# EAGLE library part RASPBERRYPI-40-PIN-GPIO (library HAT)
Raspberry Pi GPIO Header 2x20 pin connector, as found on B, B+, A+ models. Both shrouded PTH and SMT versions available. SparkFun Products: GPIO Shrouded Header <https://www.sparkfun.com/products/13054>- PTH SparkFun Pi Wedge (Preassembled) <https://www.sparkfun.com/products/13717>
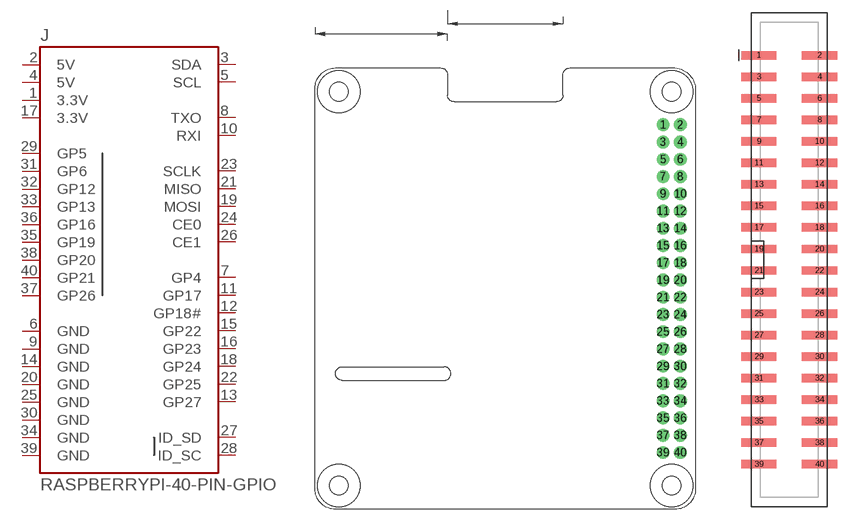
[diagram p0: symbol with the pads of 2X20_HAT; footprints 2X20_HAT, 2X20_SHROUDED_SMT]

Designator prefix J

## RASPBERRYPI-40-PIN-GPIO_B+ (PROD_ID: CONN-12263; SF_ID: PRT-13054)  [2X20_HAT]
1  3.3V  pwr
2  5V  pwr
3  SDA
4  5V  pwr
5  SCL
6  GND  pwr
7  GP4
8  TXO  out
9  GND  pwr
10  RXI  in
11  GP17
12  GP18#
13  GP27
14  GND  pwr
15  GP22
16  GP23
17  3.3V  pwr
18  GP24
19  MOSI  out
20  GND  pwr
21  MISO  in
22  GP25
23  SCLK  out
24  CE0  out
25  GND  pwr
26  CE1  out
27  ID_SD
28  ID_SC
29  GP5
30  GND  pwr
31  GP6
32  GP12
33  GP13
34  GND  pwr
35  GP19
36  GP16
37  GP26
38  GP20
39  GND  pwr
40  GP21

## RASPBERRYPI-40-PIN-GPIO_SMT (PROD_ID: CONN-13143)  [2X20_SHROUDED_SMT]
Pads as for 2X20_HAT

## RASPBERRYPI-40-PIN-GPIO_ZERO  [2X20_HAT_ZERO]
Pads as for 2X20_HAT

## Footprint 2X20_HAT (pad centres in mm)
PTH - B+ HAT Mechanical Board Specifications: Pin count:40 Pin pitch:0.1" Datasheet referenced for footprint <https://cdn.sparkfun.com/datasheets/Dev/RaspberryPi/B-D-xx1X.pdf> Example device(s): CONN_20x2
drill 1.016 pad 1.88: 1 -1.27,24.13; 2 1.27,24.13; 3 -1.27,21.59; 4 1.27,21.59; 5 -1.27,19.05; 6 1.27,19.05; 7 -1.27,16.51; 8 1.27,16.51; 9 -1.27,13.97; 10 1.27,13.97; 11 -1.27,11.43; 12 1.27,11.43; 13 -1.27,8.89; 14 1.27,8.89; 15 -1.27,6.35; 16 1.27,6.35; 17 -1.27,3.81; 18 1.27,3.81; 19 -1.27,1.27; 20 1.27,1.27; 21 -1.27,-1.27; 22 1.27,-1.27; 23 -1.27,-3.81; 24 1.27,-3.81; 25 -1.27,-6.35; 26 1.27,-6.35; 27 -1.27,-8.89; 28 1.27,-8.89; 29 -1.27,-11.43; 30 1.27,-11.43; 31 -1.27,-13.97; 32 1.27,-13.97; 33 -1.27,-16.51; 34 1.27,-16.51; 35 -1.27,-19.05; 36 1.27,-19.05; 37 -1.27,-21.59; 38 1.27,-21.59; 39 -1.27,-24.13; 40 1.27,-24.13
hole 2.75 at 0,29
hole 2.75 at -49,29
hole 2.75 at 0,-29
hole 2.75 at -49,-29

## Footprint 2X20_SHROUDED_SMT (pad centres in mm)
Surface Mount - 2x20 Shrouded Header Specifications: Pin count:40 Pin pitch:0.1" Datasheet referenced for footprint <http://sullinscorp.com/catalogs/145_PAGE118_.100_SBH11_SERIES_MALE_BOX_HDR_ST_RA_SMT.pdf> Example device(s): CONN_20x2
smd 4.14 x 0.991: 1 -3.569,24.13; 2 3.569,24.13; 3 -3.569,21.59; 4 3.569,21.59; 5 -3.569,19.05; 6 3.569,19.05; 7 -3.569,16.51; 8 3.569,16.51; 9 -3.569,13.97; 10 3.569,13.97; 11 -3.569,11.43; 12 3.569,11.43; 13 -3.569,8.89; 14 3.569,8.89; 15 -3.569,6.35; 16 3.569,6.35; 17 -3.569,3.81; 18 3.569,3.81; 19 -3.569,1.27; 20 3.569,1.27; 21 -3.569,-1.27; 22 3.569,-1.27; 23 -3.569,-3.81; 24 3.569,-3.81; 25 -3.569,-6.35; 26 3.569,-6.35; 27 -3.569,-8.89; 28 3.569,-8.89; 29 -3.569,-11.43; 30 3.569,-11.43; 31 -3.569,-13.97; 32 3.569,-13.97; 33 -3.569,-16.51; 34 3.569,-16.51; 35 -3.569,-19.05; 36 3.569,-19.05; 37 -3.569,-21.59; 38 3.569,-21.59; 39 -3.569,-24.13; 40 3.569,-24.13

## Footprint 2X20_HAT_ZERO (pad centres in mm)
pHAT board design Adds mechanical dimensions and mounting holes as per Raspberry Pi Zero and Zero W specs. Specifications: Pin count:40 Pin pitch:0.1" Datasheet referenced for footprint <https://cdn.sparkfun.com/datasheets/Dev/RaspberryPi/B-D-xx1X.pdf> Example device(s): CONN_20x2
drill 1.016 pad 1.88: 1 -1.25,24.14; 2 1.29,24.14; 3 -1.25,21.6; 4 1.29,21.6; 5 -1.25,19.06; 6 1.29,19.06; 7 -1.25,16.52; 8 1.29,16.52; 9 -1.25,13.98; 10 1.29,13.98; 11 -1.25,11.44; 12 1.29,11.44; 13 -1.25,8.9; 14 1.29,8.9; 15 -1.25,6.36; 16 1.29,6.36; 17 -1.25,3.82; 18 1.29,3.82; 19 -1.25,1.28; 20 1.29,1.28; 21 -1.25,-1.26; 22 1.29,-1.26; 23 -1.25,-3.8; 24 1.29,-3.8; 25 -1.25,-6.34; 26 1.29,-6.34; 27 -1.25,-8.88; 28 1.29,-8.88; 29 -1.25,-11.42; 30 1.29,-11.42; 31 -1.25,-13.96; 32 1.29,-13.96; 33 -1.25,-16.5; 34 1.29,-16.5; 35 -1.25,-19.04; 36 1.29,-19.04; 37 -1.25,-21.58; 38 1.29,-21.58; 39 -1.25,-24.12; 40 1.29,-24.12
hole 2.75 at 0.02,29.01
hole 2.75 at 0.02,-28.99
hole 2.75 at -22.98,29.01
hole 2.75 at -22.98,-28.99